# Altium footprint library C0805.PcbLib: 2 footprints
Each footprint in its own frame and in the unit in brackets; x right, y up, seen from the top. Pads: shape width x height; smd on the part's side, far side on the other; paste and mask are expansions set on the pad; w line width, h text height; cw(c..) or ccw(c..) is an arc to the next point about the centre after c.
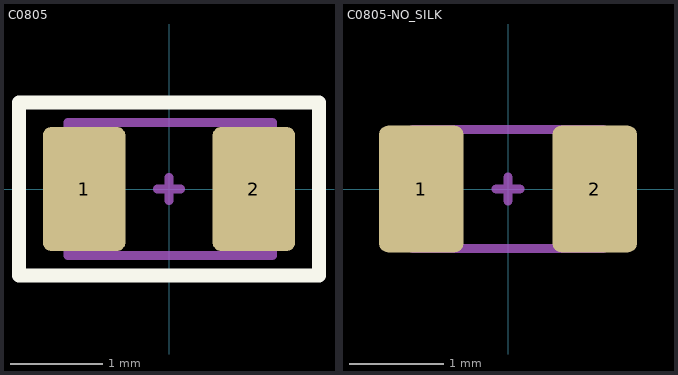
[diagram p0: the footprints below, top view; thin cyan lines are the x and y axes]

## C0805 [mm] "A generic C0805 footprint"
height 2
pads (2):
  rrect20% 0.9x1.35 smd mask+0: 1(-0.925,0) 2(0.925,0)
Top Overlay:
  lines w0.15: -1.634,-0.942 -1.634,0.942 1.634,0.942 1.634,-0.942 -1.634,-0.942
Top Designator:
  text ".Designator" at -7.618,-0.508 h1.52
3D Body:
  lines w0.1: -1.1,-0.725 -1.1,0.725 1.125,0.725 1.125,-0.725 -1.1,-0.725
Center Cross:
  lines w0.1: -0.127,0 0,0 ; 0,-0.127 0,0 ; 0,0.127 0,0 ; 0.127,0 0,0
3D body "C0805-1.step": height 0.88, standoff 0, extent -1.1,-0.725 1.1,0.725

## C0805-NO_SILK [mm] "A generic C0805 footprint"
height 2
pads (2):
  rrect20% 0.9x1.35 smd mask+0: 1(-0.925,0) 2(0.925,0)
Top Designator:
  text ".Designator" at -7.618,-0.508 h1.52
3D Body:
  lines w0.1: -1.016,-0.635 1.016,-0.635 1.016,0.635 -1.016,0.635 -1.016,-0.635
Center Cross:
  lines w0.1: -0.127,0 0,0 ; 0,-0.127 0,0 ; 0,0.127 0,0 ; 0.127,0 0,0
3D body "C0805-1.step": height 0.88, standoff 0, extent -1.1,-0.725 1.1,0.725